# Altium footprint library ADTT1-1.PcbLib: 1 footprints
Each footprint in its own frame and in the unit in brackets; x right, y up, seen from the top. Pads: shape width x height; smd on the part's side, far side on the other; paste and mask are expansions set on the pad; w line width, h text height; cw(c..) or ccw(c..) is an arc to the next point about the centre after c.
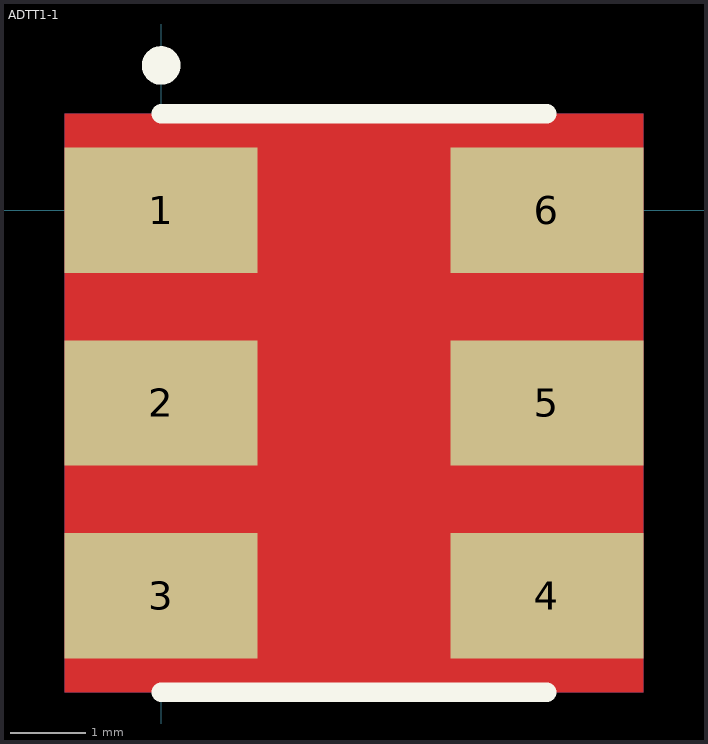
[diagram p0: the footprint, top view; thin cyan lines are the x and y axes]

## ADTT1-1 [mil] "RF Transformer"
pads (6):
  rect 100x65 smd: 1(0,0) 2(0,-100) 3(0,-200) 4(200,-200) 5(200,-100) 6(200,0)
Top Layer:
  pour cut-out: -50,50 250,50 250,-250 -50,-250
Bottom Layer:
  pour cut-out: -50,50 250,50 250,-250 -50,-250
Top Overlay:
  circle w10: c0,75 r5
  lines w10: 0,-250 200,-250 ; 0,50 200,50